# Altium schematic symbol library 除臭.SCHLIB: 25 symbols
Pins are listed as number, name and electrical type; pins without a type are passive.

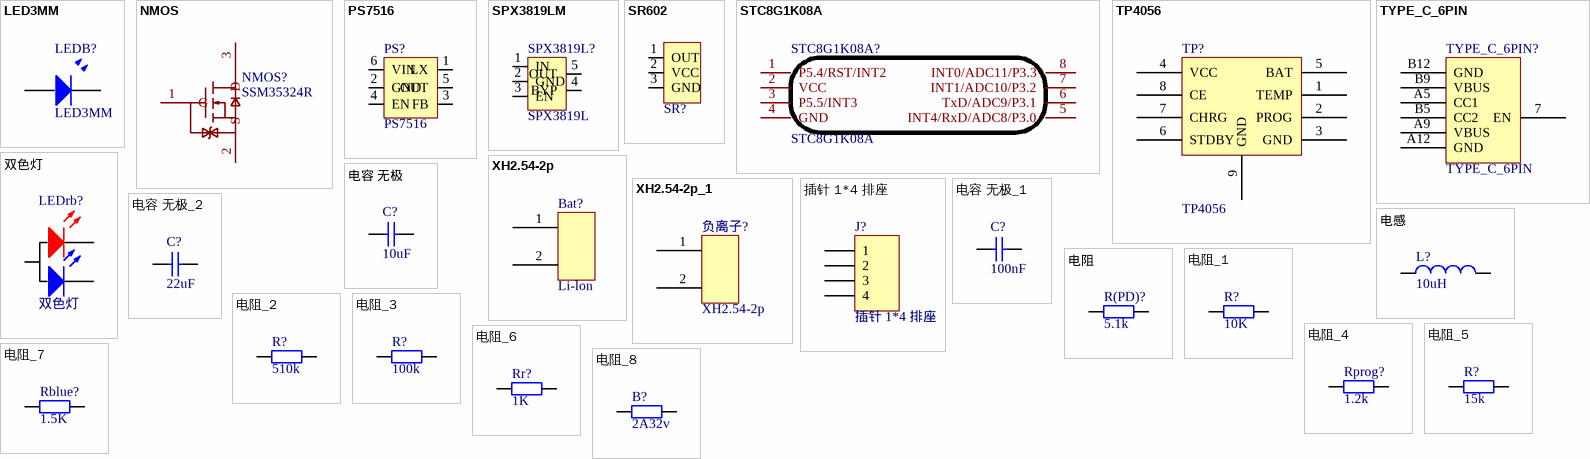
[diagram p0: symbols LED3MM to 电阻_8]

## LED3MM
designator LEDB?
footprint LED3MM
pins: 1, 2

## NMOS
designator NMOS?, comment SSM35324R
footprint NOMOS
pins: 1 G, 2 S, 3 D

## PS7516
designator PS?
footprint PS7516
pins: 1 LX, 2 GND, 3 FB, 4 EN, 5 OUT, 6 VIN

## SPX3819LM
designator SPX3819L?, comment SPX3819L
footprint SPX3819
pins: 1 IN, 2 GND, 3 EN, 4 BYP, 5 OUT

## SR602
designator SR?  (value not drawn)
footprint SR602
pins: 1 OUT, 2 VCC, 3 GND

## STC8G1K08A
designator STC8G1K08A?
footprint STC8G1K08A
pins: 1 P5.4/RST/INT2, 2 VCC, 3 P5.5/INT3, 4 GND, 5 INT4/RxD/ADC8/P3.0, 6 TxD/ADC9/P3.1, 7 INT1/ADC10/P3.2, 8 INT0/ADC11/P3.3

## TP4056
designator TP?
footprint TP4056
pins: 1 TEMP, 2 PROG, 3 GND, 4 VCC, 5 BAT, 6 STDBY, 7 CHRG, 8 CE, 9 GND

## TYPE_C_6PIN
designator TYPE_C_6PIN?
footprint TYPE_C_PIN
footprint TYPE-C_6PIN_立式
pins: 7 EN, A5 CC1, A9 VBUS, A12 GND, B5 CC2, B9 VBUS, B12 GND

## XH2.54-2p
designator Bat?, comment Li-lon
footprint XH-2.54-2p
pins: 1, 2

## XH2.54-2p_1
designator 负离子?, comment XH2.54-2p
footprint XH-2.54-2p
pins: 1, 2

## 双色灯
designator LEDrb?
footprint 双色LED_F3
pins: 1 R, 2 B, 3 VCC

## 插针 1*4 排座
designator J?
footprint 插针1*4
footprint 排座1*4
footprint 工业 插针1*4
footprint 工业插针1*4 1.25mm
pins: 1, 2, 3, 4

## 电容 无极
designator C?, comment 10uF
footprint 电容 陶瓷 M4
footprint 电容RM2.5 陶瓷
footprint 电容 直插校正 飞思卡尔
footprint 电容 独石 M5.05
footprint 0603 电容
footprint 1206 电容
footprint 7343 电容
footprint 0805 电容
footprint 电容 CBB M10
footprint 电容 CBB M6
footprint 电容 无极 方形 M22 X27 Y10
footprint 电容 无极 方形 M5 X7 Y2
pins: 1, 2

## 电容 无极_1
designator C?, comment 100nF
footprint 电容 陶瓷 M4
footprint 电容RM2.5 陶瓷
footprint 电容 直插校正 飞思卡尔
footprint 电容 独石 M5.05
footprint 0603 电容
footprint 1206 电容
footprint 7343 电容
footprint 0805 电容
footprint 电容 CBB M10
footprint 电容 CBB M6
footprint 电容 无极 方形 M22 X27 Y10
footprint 电容 无极 方形 M5 X7 Y2
pins: 1, 2

## 电容 无极_2
designator C?, comment 22uF
footprint 电容 陶瓷 M4
footprint 电容RM2.5 陶瓷
footprint 电容 直插校正 飞思卡尔
footprint 电容 独石 M5.05
footprint 0603 电容
footprint 1206 电容
footprint 7343 电容
footprint 0805 电容
footprint 电容 CBB M10
footprint 电容 CBB M6
footprint 电容 无极 方形 M22 X27 Y10
footprint 电容 无极 方形 M5 X7 Y2
pins: 1, 2

## 电感
designator L?, comment 10uH
footprint 电感 贴片 6*6
footprint 电感 贴片 方 7.4*7.4
footprint 电感 直插
footprint 电感 M5 D11 屏蔽塑封
footprint 电感 贴片 方 12.5*12.5
pins: 1, 2

## 电阻
designator R(PD)?, comment 5.1k
footprint 0805 电阻
footprint 0603 电阻
footprint 0402 电阻
footprint 电阻 2*5
footprint 电阻 2.5*10
footprint 电阻 3*12
footprint 电阻 5*15
footprint 电阻 5*18
footprint 电阻 6*21
footprint 电阻 立版
footprint 1206 电阻
pins: 1, 2

## 电阻_1
designator R?, comment 10K
footprint 0805 电阻
footprint 0603 电阻
footprint 0402 电阻
footprint 电阻 2*5
footprint 电阻 2.5*10
footprint 电阻 3*12
footprint 电阻 5*15
footprint 电阻 5*18
footprint 电阻 6*21
footprint 电阻 立版
footprint 1206 电阻
pins: 1, 2

## 电阻_2
designator R?, comment 510k
footprint 0805 电阻
footprint 0603 电阻
footprint 0402 电阻
footprint 电阻 2*5
footprint 电阻 2.5*10
footprint 电阻 3*12
footprint 电阻 5*15
footprint 电阻 5*18
footprint 电阻 6*21
footprint 电阻 立版
footprint 1206 电阻
pins: 1, 2

## 电阻_3
designator R?, comment 100k
footprint 0805 电阻
footprint 0603 电阻
footprint 0402 电阻
footprint 电阻 2*5
footprint 电阻 2.5*10
footprint 电阻 3*12
footprint 电阻 5*15
footprint 电阻 5*18
footprint 电阻 6*21
footprint 电阻 立版
footprint 1206 电阻
pins: 1, 2

## 电阻_4
designator Rprog?, comment 1.2k
footprint 0805 电阻
footprint 0603 电阻
footprint 0402 电阻
footprint 电阻 2*5
footprint 电阻 2.5*10
footprint 电阻 3*12
footprint 电阻 5*15
footprint 电阻 5*18
footprint 电阻 6*21
footprint 电阻 立版
footprint 1206 电阻
pins: 1, 2

## 电阻_5
designator R?, comment 15k
footprint 0805 电阻
footprint 0603 电阻
footprint 0402 电阻
footprint 电阻 2*5
footprint 电阻 2.5*10
footprint 电阻 3*12
footprint 电阻 5*15
footprint 电阻 5*18
footprint 电阻 6*21
footprint 电阻 立版
footprint 1206 电阻
pins: 1, 2

## 电阻_6
designator Rr?, comment 1K
footprint 0805 电阻
footprint 0603 电阻
footprint 0402 电阻
footprint 电阻 2*5
footprint 电阻 2.5*10
footprint 电阻 3*12
footprint 电阻 5*15
footprint 电阻 5*18
footprint 电阻 6*21
footprint 电阻 立版
footprint 1206 电阻
pins: 1, 2

## 电阻_7
designator Rblue?, comment 1.5K
footprint 0805 电阻
footprint 0603 电阻
footprint 0402 电阻
footprint 电阻 2*5
footprint 电阻 2.5*10
footprint 电阻 3*12
footprint 电阻 5*15
footprint 电阻 5*18
footprint 电阻 6*21
footprint 电阻 立版
footprint 1206 电阻
pins: 1, 2

## 电阻_8
designator B?, comment 2A32v
footprint 0805 电阻
footprint 0603 电阻
footprint 0402 电阻
footprint 电阻 2*5
footprint 电阻 2.5*10
footprint 电阻 3*12
footprint 电阻 5*15
footprint 电阻 5*18
footprint 电阻 6*21
footprint 电阻 立版
footprint 1206 电阻
pins: 1, 2